# Altium schematic symbol library DS1374C.SchLib: 1 symbol
Pins are listed as number, name and electrical type; pins without a type are passive.

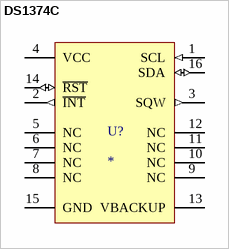
[diagram p0: symbol DS1374C]

## DS1374C
designator U?
DS1374 I2C, 32-Bit Binary Counter Watchdog RTC with Trickle Charger and Reset Input/Output; rs: 732-7380
footprint DS1374C (DS1374 I2C, 32-Bit Binary Counter Watchdog RTC with Trickle Charger and Reset Input/Output)
pins: 1 SCL (in), 2 ~{INT} (out), 3 SQW (out), 4 VCC (power), 5 NC, 6 NC, 7 NC, 8 NC, 9 NC, 10 NC, 11 NC, 12 NC, 13 VBACKUP (power), 14 ~{RST} (io), 15 GND (power), 16 SDA (io)